# Altium footprint library TMP112.PcbLib: 1 footprints
Each footprint in its own frame and in the unit in brackets; x right, y up, seen from the top. Pads: shape width x height; smd on the part's side, far side on the other; paste and mask are expansions set on the pad; w line width, h text height; cw(c..) or ccw(c..) is an arc to the next point about the centre after c.
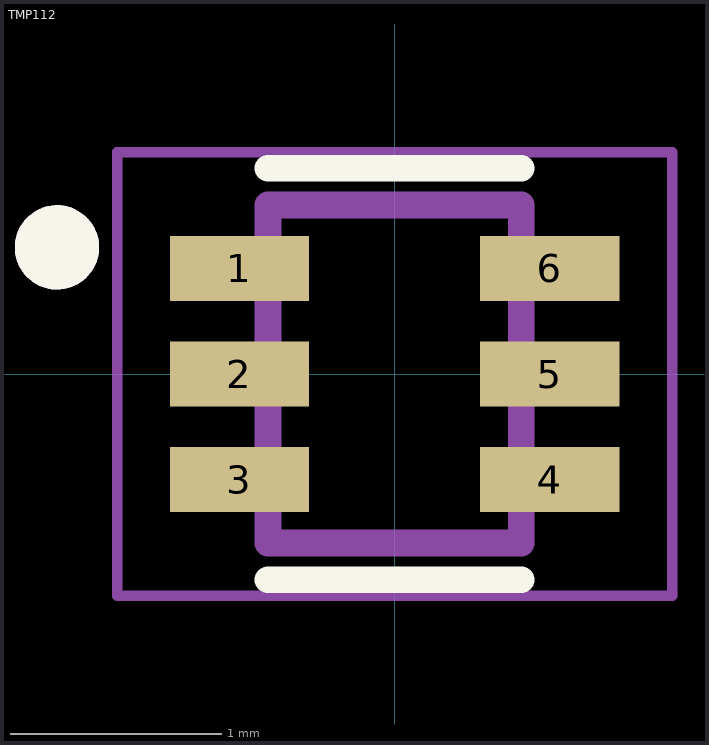
[diagram p0: the footprint, top view; thin cyan lines are the x and y axes]

## TMP112 [mm]
pads (6):
  rect 0.66x0.31 smd paste+0 mask+0.075: 1(-0.735,0.5) 2(-0.735,0) 3(-0.735,-0.5) 4(0.735,-0.5) 5(0.735,0) 6(0.735,0.5)
Top Overlay:
  circle w0.2: c-1.6,0.6 r0.1
  lines w0.127: -0.6,-0.975 0.6,-0.975 ; -0.6,0.975 0.6,0.975
Mechanical 13:
  circle w0.2: c-1.6,0.6 r0.1
  lines w0.127: -0.6,-0.8 0.6,-0.8 0.6,0.8 -0.6,0.8 -0.6,-0.8
Mechanical 15:
  lines w0.05: -1.315,-1.05 1.315,-1.05 1.315,1.05 -1.315,1.05 -1.315,-1.05
3D body "TMP112AIDRLR--3DModel-STEP-56544.STEP": height 0.6, standoff 0, extent -0.8,-0.8 0.8,0.8